# Altium footprint library TPS386000_RGP_20.PcbLib: 1 footprints
Each footprint in its own frame and in the unit in brackets; x right, y up, seen from the top. Pads: shape width x height; smd on the part's side, far side on the other; paste and mask are expansions set on the pad; w line width, h text height; cw(c..) or ccw(c..) is an arc to the next point about the centre after c.
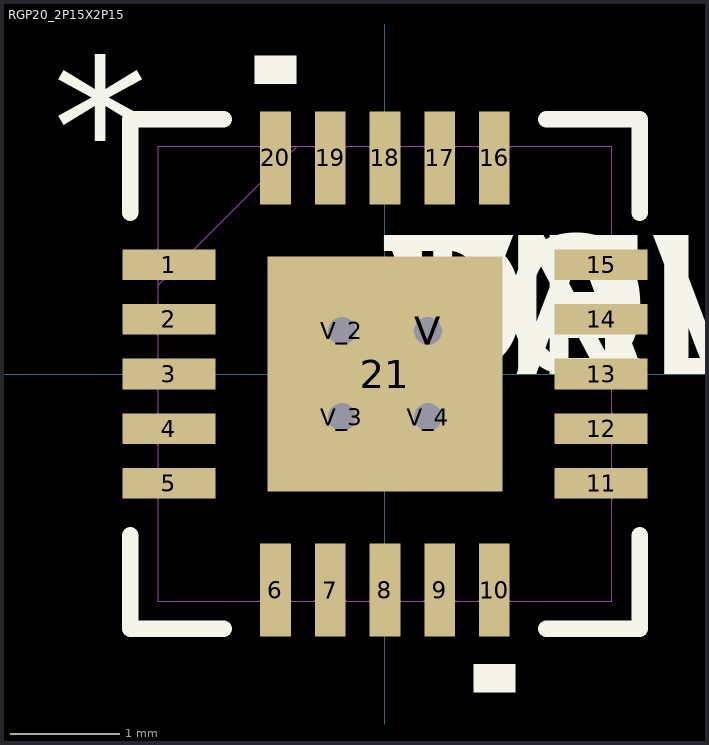
[diagram p0: the footprint, top view; thin cyan lines are the x and y axes]

## RGP20_2P15X2P15 [mm]
pads (25):
  rect 0.85x0.28 smd paste-0.412: 1(-1.975,1) 2(-1.975,0.5) 3(-1.975,0) 4(-1.975,-0.5) 5(-1.975,-1) 11(1.975,-1) 12(1.975,-0.5) 13(1.975,0) 14(1.975,0.5) 15(1.975,1)
  rect 0.28x0.85 smd paste-0.412: 6(-1,-1.975) 7(-0.5,-1.975) 8(0,-1.975) 9(0.5,-1.975) 10(1,-1.975) 16(1,1.975) 17(0.5,1.975) 18(0,1.975) 19(-0.5,1.975) 20(-1,1.975)
  rect 2.15x2.15 smd paste-1.062 mask-1.067: 21(0,0)
  round 0.508 / inner round 1.524 / far side round 0.508 hole 0.254: V(0.394,0.394) V_2(-0.394,0.394) V_3(-0.394,-0.394) V_4(0.394,-0.394)
Top Overlay:
  region: 1.191,-2.654 0.81,-2.654 0.81,-2.908 1.191,-2.908
  region: -0.81,2.654 -1.191,2.654 -1.191,2.908 -0.81,2.908
  lines w0.152: -2.329,-1.473 -2.329,-2.329 -1.473,-2.329 ; -2.329,1.473 -2.329,2.329 -1.473,2.329 ; 1.473,-2.329 2.329,-2.329 2.329,-1.473 ; 1.473,2.329 2.329,2.329 2.329,1.473
  text "*" at -3.035,1.631 h1.27
  text "PN" at 0,0 h1.27
  text "DEV" at 0,0 h1.27
  text "VAL" at 0,0 h1.27
  text "TOL" at 0,0 h1.27
Top Paste:
  drawing of 29 lines, arcs and shapes, not listed
Top Solder:
  region: -1.48,1.21 -2.47,1.21 -2.47,0.79 -1.48,0.79
  region: -1.48,0.71 -2.47,0.71 -2.47,0.29 -1.48,0.29
  region: -1.48,0.21 -2.47,0.21 -2.47,-0.21 -1.48,-0.21
  region: -1.48,-0.29 -2.47,-0.29 -2.47,-0.71 -1.48,-0.71
  region: -1.48,-0.79 -2.47,-0.79 -2.47,-1.21 -1.48,-1.21
  region: -0.791,-1.48 -1.21,-1.48 -1.21,-2.47 -0.791,-2.47
  region: -0.291,-1.48 -0.71,-1.48 -0.71,-2.47 -0.291,-2.47
  region: 0.21,-1.48 -0.21,-1.48 -0.21,-2.47 0.21,-2.47
  region: 0.71,-1.48 0.291,-1.48 0.291,-2.47 0.71,-2.47
  region: 1.21,-1.48 0.791,-1.48 0.791,-2.47 1.21,-2.47
  region: 2.47,-0.79 1.48,-0.79 1.48,-1.21 2.47,-1.21
  region: 2.47,-0.29 1.48,-0.29 1.48,-0.71 2.47,-0.71
  region: 2.47,0.21 1.48,0.21 1.48,-0.21 2.47,-0.21
  region: 2.47,0.71 1.48,0.71 1.48,0.29 2.47,0.29
  region: 2.47,1.21 1.48,1.21 1.48,0.79 2.47,0.79
  region: 1.21,2.47 0.791,2.47 0.791,1.48 1.21,1.48
  region: 0.71,2.47 0.291,2.47 0.291,1.48 0.71,1.48
  region: 0.21,2.47 -0.21,2.47 -0.21,1.48 0.21,1.48
  region: -0.291,2.47 -0.71,2.47 -0.71,1.48 -0.291,1.48
  region: -0.791,2.47 -1.21,2.47 -1.21,1.48 -0.791,1.48
  region: -1.138,0.594 -1.138,1.138 1.138,1.138 1.138,0.594
  region: -1.138,-0.194 -1.138,0.194 1.138,0.194 1.138,-0.194
  region: -1.138,-1.138 -1.138,-0.594 1.138,-0.594 1.138,-1.138
  region: -1.138,-1.138 -1.138,1.138 -0.594,1.138 -0.594,-1.138
  region: 0.194,-1.138 0.194,1.138 -0.194,1.138 -0.194,-1.138
  region: 0.594,-1.138 0.594,1.138 1.138,1.138 1.138,-1.138
Mechanical 1:
  lines w0: -2.075,0.805 -0.805,2.075 ; -2.075,-1.15 -2.075,-0.85 ; -2.075,-1.15 -2.075,-0.85 ; -2.075,-1.15 -2.075,-1.15 ; -2.075,-0.85 -2.075,-0.85 ; -2.075,-0.65 -2.075,-0.35 ; -2.075,-0.65 -2.075,-0.35 ; -2.075,-0.65 -2.075,-0.65 ; -2.075,-0.35 -2.075,-0.35 ; -2.075,-0.15 -2.075,0.15 ; -2.075,-0.15 -2.075,0.15 ; -2.075,-0.15 -2.075,-0.15 ; -2.075,0.15 -2.075,0.15 ; -2.075,0.35 -2.075,0.65 ; -2.075,0.35 -2.075,0.65 ; -2.075,0.35 -2.075,0.35 ; -2.075,0.65 -2.075,0.65 ; -2.075,0.85 -2.075,1.15 ; -2.075,0.85 -2.075,1.15 ; -2.075,0.85 -2.075,0.85 ; -2.075,1.15 -2.075,1.15 ; -1.15,-2.075 -0.85,-2.075 ; -1.15,-2.075 -1.15,-2.075 ; -1.15,-2.075 -0.85,-2.075 ; -1.15,2.075 -0.85,2.075 ; -1.15,2.075 -0.85,2.075 ; -1.15,2.075 -1.15,2.075 ; -0.85,-2.075 -0.85,-2.075 ; -0.85,2.075 -0.85,2.075 ; -0.65,-2.075 -0.35,-2.075 ; -0.65,-2.075 -0.65,-2.075 ; -0.65,-2.075 -0.35,-2.075 ; -0.65,2.075 -0.35,2.075 ; -0.65,2.075 -0.35,2.075 ; -0.65,2.075 -0.65,2.075 ; -0.35,-2.075 -0.35,-2.075 ; -0.35,2.075 -0.35,2.075 ; -0.15,-2.075 0.15,-2.075 ; -0.15,-2.075 -0.15,-2.075 ; -0.15,-2.075 0.15,-2.075 ; -0.15,2.075 0.15,2.075 ; -0.15,2.075 0.15,2.075 ; -0.15,2.075 -0.15,2.075 ; 0.15,-2.075 0.15,-2.075 ; 0.15,2.075 0.15,2.075 ; 0.35,-2.075 0.65,-2.075 ; 0.35,-2.075 0.35,-2.075 ; 0.35,-2.075 0.65,-2.075 ; 0.35,2.075 0.65,2.075 ; 0.35,2.075 0.65,2.075 ; 0.35,2.075 0.35,2.075 ; 0.65,-2.075 0.65,-2.075 ; 0.65,2.075 0.65,2.075 ; 0.85,-2.075 1.15,-2.075 ; 0.85,-2.075 0.85,-2.075 ; 0.85,-2.075 1.15,-2.075 ; 0.85,2.075 1.15,2.075 ; 0.85,2.075 1.15,2.075 ; 0.85,2.075 0.85,2.075 ; 1.15,-2.075 1.15,-2.075 ; 1.15,2.075 1.15,2.075 ; 2.075,-1.15 2.075,-0.85 ; 2.075,-1.15 2.075,-1.15 ; 2.075,-1.15 2.075,-0.85 ; 2.075,-0.85 2.075,-0.85 ; 2.075,-0.65 2.075,-0.35 ; 2.075,-0.65 2.075,-0.65 ; 2.075,-0.65 2.075,-0.35 ; 2.075,-0.35 2.075,-0.35 ; 2.075,-0.15 2.075,0.15 ; 2.075,-0.15 2.075,-0.15 ; 2.075,-0.15 2.075,0.15 ; 2.075,0.15 2.075,0.15 ; 2.075,0.35 2.075,0.65 ; 2.075,0.35 2.075,0.35 ; 2.075,0.35 2.075,0.65 ; 2.075,0.65 2.075,0.65 ; 2.075,0.85 2.075,1.15 ; 2.075,0.85 2.075,0.85 ; 2.075,0.85 2.075,1.15 ; 2.075,1.15 2.075,1.15 ; -2.075,-2.075 2.075,-2.075 2.075,2.075 -2.075,2.075 -2.075,-2.075
  text "*" at -3.035,1.631 h1.27
  text "RefDes2" at 0,0 h1.27